# Altium footprint library EECF5R5U474, 0.470 Ф, 5.5 В, 5мм.PcbLib: 1 footprints
Each footprint in its own frame and in the unit in brackets; x right, y up, seen from the top. Pads: shape width x height; smd on the part's side, far side on the other; paste and mask are expansions set on the pad; w line width, h text height; cw(c..) or ccw(c..) is an arc to the next point about the centre after c.
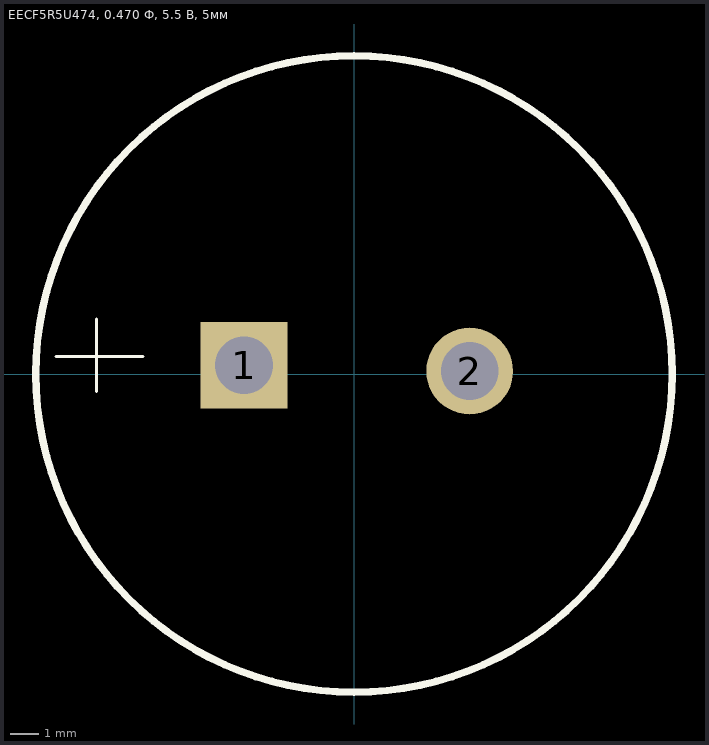
[diagram p0: the footprint, top view; thin cyan lines are the x and y axes]

## EECF5R5U474, 0.470 Ф, 5.5 В, 5мм [mm]
pads (2):
  rect 3x3 hole 2: 1(-3.8,0.3)
  round 3 hole 2: 2(4,0.1)
Top Overlay:
  circle w0.254: c0,0 r11
  lines w0.1: -10.3,0.6 -7.3,0.6 ; -8.9,-0.6 -8.9,1.9
3D body: height 9, standoff 0, extent -11,-10.997 11,10.997